# Altium footprint library Con FPC-FFC.PcbLib: 50 footprints (part 1 of 4)
Each footprint in its own frame and in the unit in brackets; x right, y up, seen from the top. Pads: shape width x height; smd on the part's side, far side on the other; paste and mask are expansions set on the pad; w line width, h text height; cw(c..) or ccw(c..) is an arc to the next point about the centre after c.
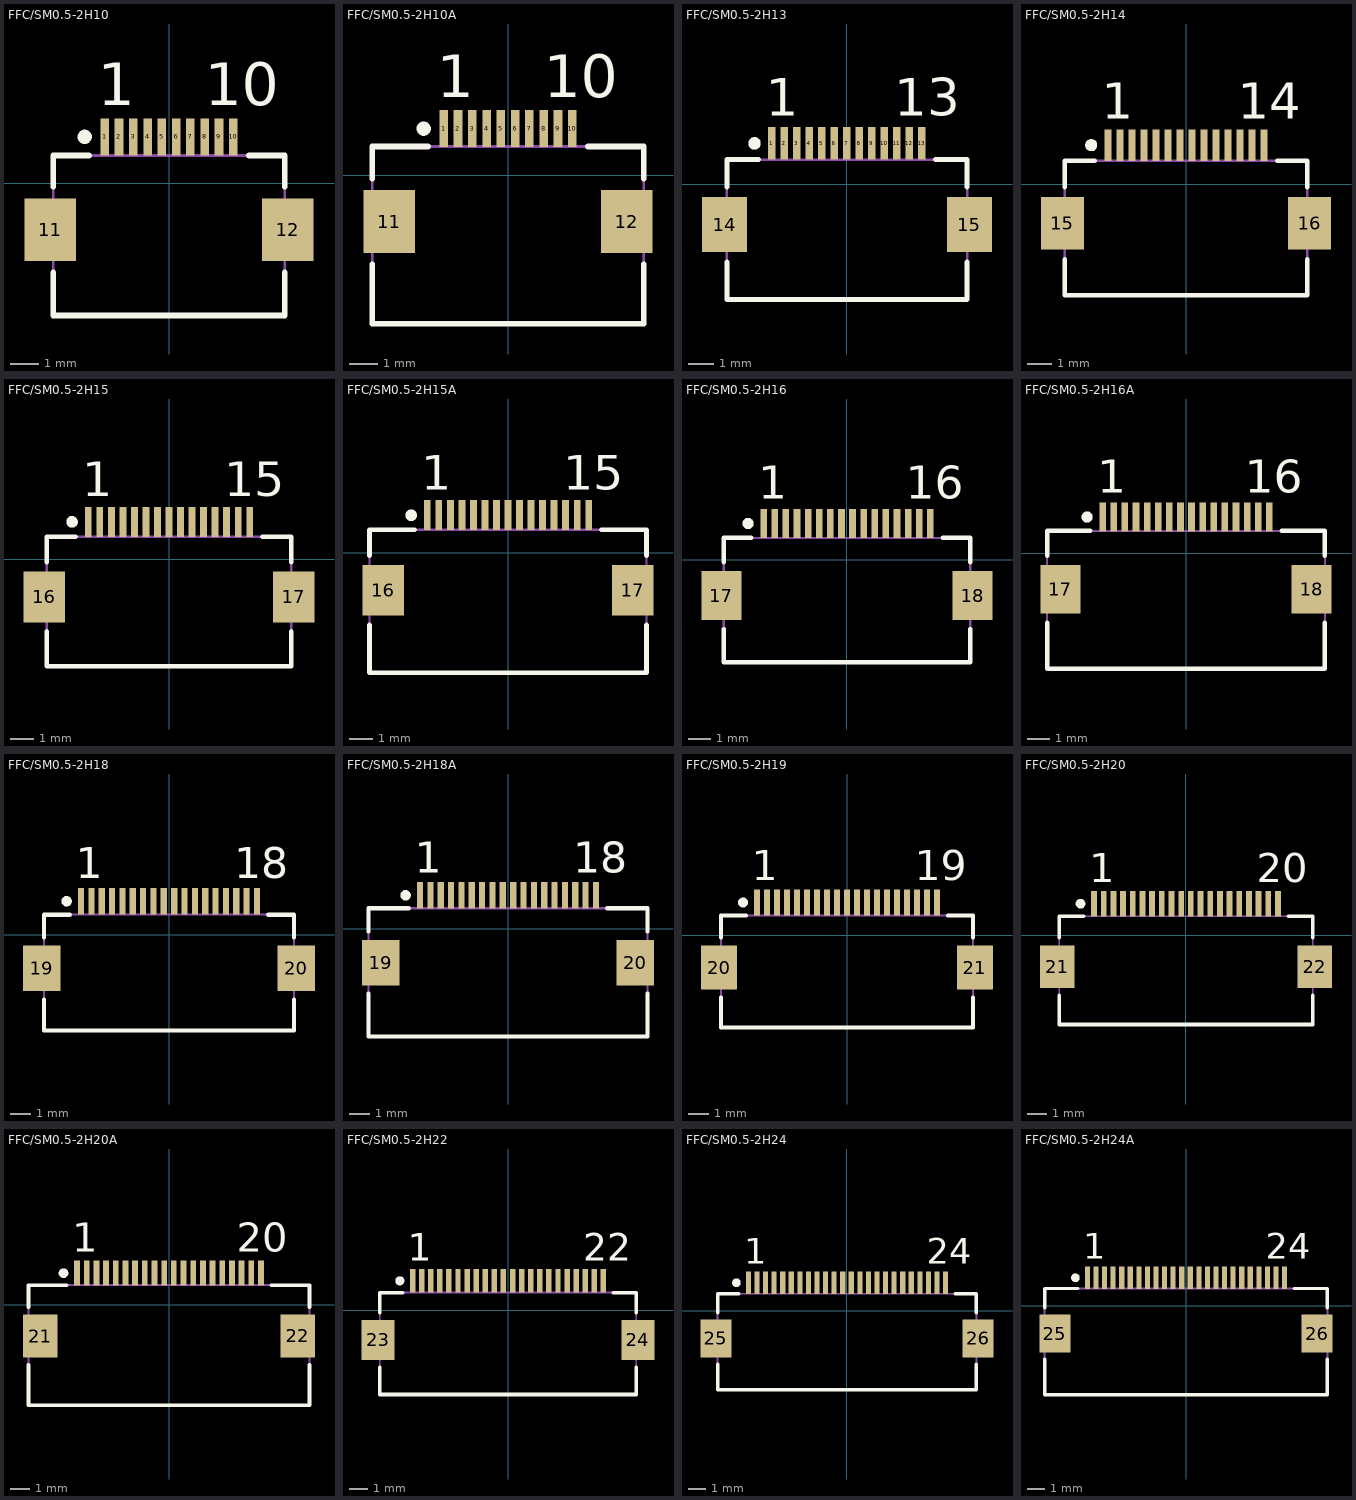
[diagram p0: the footprints below, top view; thin cyan lines are the x and y axes]

## FFC/SM0.5-2H10 [mm] "Connector; FH12 Series; 10 Position; 0.5mm Spaced Bottom Contact"
height 2
pads (12):
  rect 0.3x1.3 smd: 1(-2.25,1.625) 2(-1.75,1.625) 3(-1.25,1.625) 4(-0.75,1.625) 5(-0.25,1.625) 6(0.25,1.625) 7(0.75,1.625) 8(1.25,1.625) 9(1.75,1.625) 10(2.25,1.625)
  rect 1.8x2.2 smd: 11(-4.15,-1.625) 12(4.15,-1.625)
Top Overlay:
  circle w0.25: c-2.95,1.625 r0.125
  lines w0.2: -4.05,-3.125 -4.05,-4.625 4.05,-4.625 4.05,-3.125 ; -4.05,-0.125 -4.05,0.975 -2.8,0.975 ; 2.8,0.975 4.05,0.975 4.05,-0.125
  text "10" at 1.25,2.725 h1.5
  text "1" at -2.5,2.725 h1.5
Mechanical 13:
  lines w0.1: -4.05,-4.625 -4.05,0.975 4.05,0.975 4.05,-4.625 -4.05,-4.625
3D body: height 2, standoff 0, extent -4.05,-4.625 4.05,0.975

## FFC/SM0.5-2H10A [mm] "Connector; FH12 Series; 10 Position; 0.5mm Spaced Top Contact"
height 2
pads (12):
  rect 0.3x1.3 smd: 1(-2.25,1.625) 2(-1.75,1.625) 3(-1.25,1.625) 4(-0.75,1.625) 5(-0.25,1.625) 6(0.25,1.625) 7(0.75,1.625) 8(1.25,1.625) 9(1.75,1.625) 10(2.25,1.625)
  rect 1.8x2.2 smd: 11(-4.15,-1.625) 12(4.15,-1.625)
Top Overlay:
  circle w0.25: c-2.95,1.625 r0.125
  lines w0.2: -4.75,-3.125 -4.75,-5.2 4.75,-5.2 4.75,-3.125 ; -4.75,-0.125 -4.75,1 -2.8,1 ; 2.8,1 4.75,1 4.75,-0.125
  text "1" at -2.5,2.725 h1.5
  text "10" at 1.25,2.725 h1.5
Mechanical 13:
  lines w0.1: -4.75,-5.2 -4.75,1 4.75,1 4.75,-5.2 -4.75,-5.2
3D body: height 2, standoff 0, extent -4.75,-5.2 4.75,1

## FFC/SM0.5-2H13 [mm] "Connector; FH12 Series; 13 Position; 0.5mm Spaced Bottom Contact"
height 2
pads (15):
  rect 0.3x1.3 smd: 1(-3,1.625) 2(-2.5,1.625) 3(-2,1.625) 4(-1.5,1.625) 5(-1,1.625) 6(-0.5,1.625) 7(0,1.625) 8(0.5,1.625) 9(1,1.625) 10(1.5,1.625) 11(2,1.625) 12(2.5,1.625) 13(3,1.625)
  rect 1.8x2.2 smd: 14(-4.9,-1.625) 15(4.9,-1.625)
Top Overlay:
  circle w0.25: c-3.7,1.625 r0.125
  lines w0.2: -4.8,-3.125 -4.8,-4.625 4.8,-4.625 4.8,-3.125 ; -4.8,-0.125 -4.8,0.975 -3.55,0.975 ; 3.55,0.975 4.8,0.975 4.8,-0.125
  text "13" at 1.9,2.725 h1.5
  text "1" at -3.25,2.725 h1.5
Mechanical 13:
  lines w0.1: -4.8,-4.625 4.8,-4.625 4.8,0.975 -4.8,0.975 -4.8,-4.625
3D body: height 2, standoff 0, extent -4.8,-4.625 4.8,0.975

## FFC/SM0.5-2H14 [mm] "Connector; FH12 Series; 14 Position; 0.5mm Spaced Bottom Contact"
height 2
pads (16):
  rect 0.3x1.3 smd: 1(-3.25,1.625) 2(-2.75,1.625) 3(-2.25,1.625) 4(-1.75,1.625) 5(-1.25,1.625) 6(-0.75,1.625) 7(-0.25,1.625) 8(0.25,1.625) 9(0.75,1.625) 10(1.25,1.625) 11(1.75,1.625) 12(2.25,1.625) 13(2.75,1.625) 14(3.25,1.625)
  rect 1.8x2.2 smd: 15(-5.15,-1.625) 16(5.15,-1.625)
Top Overlay:
  circle w0.25: c-3.95,1.625 r0.125
  lines w0.2: -5.05,-3.125 -5.05,-4.625 5.05,-4.625 5.05,-3.125 ; -5.05,-0.125 -5.05,0.975 -3.8,0.975 ; 3.8,0.975 5.05,0.975 5.05,-0.125
  text "14" at 2.15,2.725 h1.5
  text "1" at -3.5,2.725 h1.5
Mechanical 13:
  lines w0.1: -5.05,-4.625 5.05,-4.625 5.05,0.975 -5.05,0.975 -5.05,-4.625
3D body: height 2, standoff 0, extent -5.05,-4.625 5.05,0.975

## FFC/SM0.5-2H15 [mm] "Connector; FH12 Series; 15 Position; 0.5mm Spaced Bottom Contact"
height 2
pads (17):
  rect 0.3x1.3 smd: 1(-3.5,1.625) 2(-3,1.625) 3(-2.5,1.625) 4(-2,1.625) 5(-1.5,1.625) 6(-1,1.625) 7(-0.5,1.625) 8(0,1.625) 9(0.5,1.625) 10(1,1.625) 11(1.5,1.625) 12(2,1.625) 13(2.5,1.625) 14(3,1.625) 15(3.5,1.625)
  rect 1.8x2.2 smd: 16(-5.4,-1.625) 17(5.4,-1.625)
Top Overlay:
  circle w0.25: c-4.2,1.625 r0.125
  lines w0.2: -5.3,-3.125 -5.3,-4.625 5.3,-4.625 5.3,-3.125 ; -5.3,-0.125 -5.3,0.975 -4.05,0.975 ; 4.05,0.975 5.3,0.975 5.3,-0.125
  text "1" at -3.75,2.725 h1.5
  text "15" at 2.4,2.725 h1.5
Mechanical 13:
  lines w0.1: -5.3,-4.625 5.3,-4.625 5.3,0.975 -5.3,0.975 -5.3,-4.625
3D body: height 2, standoff 0, extent -5.3,-4.625 5.3,0.975

## FFC/SM0.5-2H15A [mm] "Connector; FH12 Series; 15 Position; 0.5mm Spaced Top Contact"
height 2
pads (17):
  rect 0.3x1.3 smd: 1(-3.5,1.625) 2(-3,1.625) 3(-2.5,1.625) 4(-2,1.625) 5(-1.5,1.625) 6(-1,1.625) 7(-0.5,1.625) 8(0,1.625) 9(0.5,1.625) 10(1,1.625) 11(1.5,1.625) 12(2,1.625) 13(2.5,1.625) 14(3,1.625) 15(3.5,1.625)
  rect 1.8x2.2 smd: 16(-5.4,-1.625) 17(5.4,-1.625)
Top Overlay:
  circle w0.25: c-4.2,1.625 r0.125
  lines w0.2: -6,-3.125 -6,-5.2 6,-5.2 6,-3.125 ; -6,-0.125 -6,1 -4.05,1 ; 4.05,1 6,1 6,-0.125
  text "15" at 2.4,2.725 h1.5
  text "1" at -3.75,2.725 h1.5
Mechanical 13:
  lines w0.1: -6,-5.2 6,-5.2 6,1 -6,1 -6,-5.2
3D body: height 2, standoff 0, extent -6,-5.2 6,1

## FFC/SM0.5-2H16 [mm] "Connector; FH12 Series; 16 Position; 0.5mm Spaced Bottom Contact"
height 2
pads (18):
  rect 0.3x1.3 smd: 1(-3.75,1.625) 2(-3.25,1.625) 3(-2.75,1.625) 4(-2.25,1.625) 5(-1.75,1.625) 6(-1.25,1.625) 7(-0.75,1.625) 8(-0.25,1.625) 9(0.25,1.625) 10(0.75,1.625) 11(1.25,1.625) 12(1.75,1.625) 13(2.25,1.625) 14(2.75,1.625) 15(3.25,1.625) 16(3.75,1.625)
  rect 1.8x2.2 smd: 17(-5.65,-1.625) 18(5.65,-1.625)
Top Overlay:
  circle w0.25: c-4.45,1.625 r0.125
  lines w0.2: -5.55,-3.125 -5.55,-4.625 5.55,-4.625 5.55,-3.125 ; -5.55,-0.125 -5.55,0.975 -4.3,0.975 ; 4.3,0.975 5.55,0.975 5.55,-0.125
  text "16" at 2.65,2.725 h1.5
  text "1" at -4,2.725 h1.5
Mechanical 13:
  lines w0.1: -5.55,-4.625 5.55,-4.625 5.55,0.975 -5.55,0.975 -5.55,-4.625
3D body: height 2, standoff 0, extent -5.55,-4.625 5.55,0.975

## FFC/SM0.5-2H16A [mm] "Connector; FH12 Series; 16 Position; 0.5mm Spaced Top Contact"
height 2
pads (18):
  rect 0.3x1.3 smd: 1(-3.75,1.625) 2(-3.25,1.625) 3(-2.75,1.625) 4(-2.25,1.625) 5(-1.75,1.625) 6(-1.25,1.625) 7(-0.75,1.625) 8(-0.25,1.625) 9(0.25,1.625) 10(0.75,1.625) 11(1.25,1.625) 12(1.75,1.625) 13(2.25,1.625) 14(2.75,1.625) 15(3.25,1.625) 16(3.75,1.625)
  rect 1.8x2.2 smd: 17(-5.65,-1.625) 18(5.65,-1.625)
Top Overlay:
  circle w0.25: c-4.45,1.625 r0.125
  lines w0.2: -6.25,-3.125 -6.25,-5.2 6.25,-5.2 6.25,-3.125 ; -6.25,-0.125 -6.25,1 -4.3,1 ; 4.3,1 6.25,1 6.25,-0.125
  text "1" at -4,2.725 h1.5
  text "16" at 2.65,2.725 h1.5
Mechanical 13:
  lines w0.1: -6.25,-5.2 6.25,-5.2 6.25,1 -6.25,1 -6.25,-5.2
3D body: height 2, standoff 0, extent -6.25,-5.2 6.25,1

## FFC/SM0.5-2H18 [mm] "Connector; FH12 Series; 18 Position; 0.5mm Spaced Bottom Contact"
height 2
pads (20):
  rect 0.3x1.3 smd: 1(-4.25,1.625) 2(-3.75,1.625) 3(-3.25,1.625) 4(-2.75,1.625) 5(-2.25,1.625) 6(-1.75,1.625) 7(-1.25,1.625) 8(-0.75,1.625) 9(-0.25,1.625) 10(0.25,1.625) 11(0.75,1.625) 12(1.25,1.625) 13(1.75,1.625) 14(2.25,1.625) 15(2.75,1.625) 16(3.25,1.625) 17(3.75,1.625) 18(4.25,1.625)
  rect 1.8x2.2 smd: 19(-6.15,-1.625) 20(6.15,-1.625)
Top Overlay:
  circle w0.25: c-4.95,1.625 r0.125
  lines w0.2: -6.05,-3.125 -6.05,-4.625 6.05,-4.625 6.05,-3.125 ; -6.05,-0.125 -6.05,0.975 -4.8,0.975 ; 4.8,0.975 6.05,0.975 6.05,-0.125
  text "18" at 3.15,2.725 h1.5
  text "1" at -4.5,2.725 h1.5
Mechanical 13:
  lines w0.1: -6.05,-4.625 6.05,-4.625 6.05,0.975 -6.05,0.975 -6.05,-4.625
3D body: height 2, standoff 0, extent -6.05,-4.625 6.05,0.975

## FFC/SM0.5-2H18A [mm] "Connector; FH12 Series; 18 Position; 0.5mm Spaced Top Contact"
height 2
pads (20):
  rect 0.3x1.3 smd: 1(-4.25,1.625) 2(-3.75,1.625) 3(-3.25,1.625) 4(-2.75,1.625) 5(-2.25,1.625) 6(-1.75,1.625) 7(-1.25,1.625) 8(-0.75,1.625) 9(-0.25,1.625) 10(0.25,1.625) 11(0.75,1.625) 12(1.25,1.625) 13(1.75,1.625) 14(2.25,1.625) 15(2.75,1.625) 16(3.25,1.625) 17(3.75,1.625) 18(4.25,1.625)
  rect 1.8x2.2 smd: 19(-6.15,-1.625) 20(6.15,-1.625)
Top Overlay:
  circle w0.25: c-4.95,1.625 r0.125
  lines w0.2: -6.75,-3.125 -6.75,-5.2 6.75,-5.2 6.75,-3.125 ; -6.75,-0.125 -6.75,1 -4.8,1 ; 4.8,1 6.75,1 6.75,-0.125
  text "18" at 3.15,2.725 h1.5
  text "1" at -4.5,2.725 h1.5
Mechanical 13:
  lines w0.1: -6.75,-5.2 6.75,-5.2 6.75,1 -6.75,1 -6.75,-5.2
3D body: height 2, standoff 0, extent -6.75,-5.2 6.75,1

## FFC/SM0.5-2H19 [mm] "Connector; FH12 Series; 19 Position; 0.5mm Spaced Bottom Contact"
height 2
pads (21):
  rect 0.3x1.3 smd: 1(-4.5,1.625) 2(-4,1.625) 3(-3.5,1.625) 4(-3,1.625) 5(-2.5,1.625) 6(-2,1.625) 7(-1.5,1.625) 8(-1,1.625) 9(-0.5,1.625) 10(0,1.625) 11(0.5,1.625) 12(1,1.625) 13(1.5,1.625) 14(2,1.625) 15(2.5,1.625) 16(3,1.625) 17(3.5,1.625) 18(4,1.625) 19(4.5,1.625)
  rect 1.8x2.2 smd: 20(-6.4,-1.625) 21(6.4,-1.625)
Top Overlay:
  circle w0.25: c-5.2,1.625 r0.125
  lines w0.2: -6.3,-3.125 -6.3,-4.625 6.3,-4.625 6.3,-3.125 ; -6.3,-0.125 -6.3,0.975 -5.05,0.975 ; 5.05,0.975 6.3,0.975 6.3,-0.125
  text "1" at -4.75,2.725 h1.5
  text "19" at 3.4,2.725 h1.5
Mechanical 13:
  lines w0.1: -6.3,-4.625 6.3,-4.625 6.3,0.975 -6.3,0.975 -6.3,-4.625
3D body: height 2, standoff 0, extent -6.3,-4.625 6.3,0.975

## FFC/SM0.5-2H20 [mm] "Connector; FH12 Series; 20 Position; 0.5mm Spaced Bottom Contact"
height 2
pads (22):
  rect 0.3x1.3 smd: 1(-4.75,1.625) 2(-4.25,1.625) 3(-3.75,1.625) 4(-3.25,1.625) 5(-2.75,1.625) 6(-2.25,1.625) 7(-1.75,1.625) 8(-1.25,1.625) 9(-0.75,1.625) 10(-0.25,1.625) 11(0.25,1.625) 12(0.75,1.625) 13(1.25,1.625) 14(1.75,1.625) 15(2.25,1.625) 16(2.75,1.625) 17(3.25,1.625) 18(3.75,1.625) 19(4.25,1.625) 20(4.75,1.625)
  rect 1.8x2.2 smd: 21(-6.65,-1.625) 22(6.65,-1.623)
Top Overlay:
  circle w0.25: c-5.45,1.625 r0.125
  lines w0.2: -6.55,-3.123 -6.55,-4.623 6.55,-4.623 6.55,-3.123 ; -6.55,-0.123 -6.55,0.977 -5.3,0.977 ; 5.3,0.977 6.55,0.977 6.55,-0.123
  text "20" at 3.65,2.725 h1.5
  text "1" at -5,2.725 h1.5
Mechanical 13:
  lines w0.1: -6.55,-4.623 6.55,-4.623 6.55,0.977 -6.55,0.977 -6.55,-4.623
3D body: height 2, standoff 0, extent -6.55,-4.623 6.55,0.977

## FFC/SM0.5-2H20A [mm] "Connector; FH12 Series; 20 Position; 0.5mm Spaced Top Contact"
height 2
pads (22):
  rect 0.3x1.3 smd: 1(-4.75,1.625) 2(-4.25,1.625) 3(-3.75,1.625) 4(-3.25,1.625) 5(-2.75,1.625) 6(-2.25,1.625) 7(-1.75,1.625) 8(-1.25,1.625) 9(-0.75,1.625) 10(-0.25,1.625) 11(0.25,1.625) 12(0.75,1.625) 13(1.25,1.625) 14(1.75,1.625) 15(2.25,1.625) 16(2.75,1.625) 17(3.25,1.625) 18(3.75,1.625) 19(4.25,1.625) 20(4.75,1.625)
  rect 1.8x2.2 smd: 21(-6.65,-1.625) 22(6.65,-1.623)
Top Overlay:
  circle w0.25: c-5.45,1.625 r0.125
  lines w0.2: -7.25,-3.123 -7.25,-5.198 7.25,-5.198 7.25,-3.123 ; -7.25,-0.123 -7.25,1.002 -5.3,1.002 ; 5.3,1.002 7.25,1.002 7.25,-0.123
  text "1" at -5,2.725 h1.5
  text "20" at 3.5,2.725 h1.5
Mechanical 13:
  lines w0.1: -7.25,-5.198 7.25,-5.198 7.25,1.002 -7.25,1.002 -7.25,-5.198
3D body: height 2, standoff 0, extent -7.25,-5.198 7.25,1.002

## FFC/SM0.5-2H22 [mm] "Connector; FH12 Series; 22 Position; 0.5mm Spaced Bottom Contact"
height 2
pads (24):
  rect 0.3x1.3 smd: 1(-5.25,1.625) 2(-4.75,1.625) 3(-4.25,1.625) 4(-3.75,1.625) 5(-3.25,1.625) 6(-2.75,1.625) 7(-2.25,1.625) 8(-1.75,1.625) 9(-1.25,1.625) 10(-0.75,1.625) 11(-0.25,1.625) 12(0.25,1.625) 13(0.75,1.625) 14(1.25,1.625) 15(1.75,1.625) 16(2.25,1.625) 17(2.75,1.625) 18(3.25,1.625) 19(3.75,1.625) 20(4.25,1.625) 21(4.75,1.625) 22(5.25,1.625)
  rect 1.8x2.2 smd: 23(-7.15,-1.625) 24(7.15,-1.625)
Top Overlay:
  circle w0.25: c-5.95,1.625 r0.125
  lines w0.2: -7.05,-3.125 -7.05,-4.625 7.05,-4.625 7.05,-3.125 ; -7.05,-0.125 -7.05,0.975 -5.8,0.975 ; 5.8,0.975 7.05,0.975 7.05,-0.125
  text "22" at 4.15,2.725 h1.5
  text "1" at -5.5,2.725 h1.5
Mechanical 13:
  lines w0.1: -7.05,-4.625 7.05,-4.625 7.05,0.975 -7.05,0.975 -7.05,-4.625
3D body: height 2, standoff 0, extent -7.05,-4.625 7.05,0.975

## FFC/SM0.5-2H24 [mm] "Connector; FH12 Series; 24 Position; 0.5mm Spaced Bottom Contact"
height 2
pads (26):
  rect 0.3x1.3 smd: 1(-5.75,1.625) 2(-5.25,1.625) 3(-4.75,1.625) 4(-4.25,1.625) 5(-3.75,1.625) 6(-3.25,1.625) 7(-2.75,1.625) 8(-2.25,1.625) 9(-1.75,1.625) 10(-1.25,1.625) 11(-0.75,1.625) 12(-0.25,1.625) 13(0.25,1.625) 14(0.75,1.625) 15(1.25,1.625) 16(1.75,1.625) 17(2.25,1.625) 18(2.75,1.625) 19(3.25,1.625) 20(3.75,1.625) 21(4.25,1.625) 22(4.75,1.625) 23(5.25,1.625) 24(5.75,1.625)
  rect 1.8x2.2 smd: 25(-7.65,-1.625) 26(7.65,-1.625)
Top Overlay:
  circle w0.25: c-6.45,1.625 r0.125
  lines w0.2: -7.55,-3.125 -7.55,-4.625 7.55,-4.625 7.55,-3.125 ; -7.55,-0.125 -7.55,0.975 -6.3,0.975 ; 6.3,0.975 7.55,0.975 7.55,-0.125
  text "1" at -6,2.725 h1.5
  text "24" at 4.65,2.725 h1.5
Mechanical 13:
  lines w0.1: -7.55,-4.625 7.55,-4.625 7.55,0.975 -7.55,0.975 -7.55,-4.625
3D body: height 2, standoff 0, extent -7.55,-4.625 7.55,0.975

## FFC/SM0.5-2H24A [mm] "Connector; FH12 Series; 24 Position; 0.5mm Spaced Top Contact"
height 2
pads (26):
  rect 0.3x1.3 smd: 1(-5.75,1.625) 2(-5.25,1.625) 3(-4.75,1.625) 4(-4.25,1.625) 5(-3.75,1.625) 6(-3.25,1.625) 7(-2.75,1.625) 8(-2.25,1.625) 9(-1.75,1.625) 10(-1.25,1.625) 11(-0.75,1.625) 12(-0.25,1.625) 13(0.25,1.625) 14(0.75,1.625) 15(1.25,1.625) 16(1.75,1.625) 17(2.25,1.625) 18(2.75,1.625) 19(3.25,1.625) 20(3.75,1.625) 21(4.25,1.625) 22(4.75,1.625) 23(5.25,1.625) 24(5.75,1.625)
  rect 1.8x2.2 smd: 25(-7.65,-1.625) 26(7.65,-1.625)
Top Overlay:
  circle w0.25: c-6.45,1.625 r0.125
  lines w0.2: -8.25,-3.125 -8.25,-5.2 8.25,-5.2 8.25,-3.125 ; -8.25,-0.125 -8.25,1 -6.3,1 ; 6.3,1 8.25,1 8.25,-0.125
  text "1" at -6,2.725 h1.5
  text "24" at 4.65,2.725 h1.5
Mechanical 13:
  lines w0.1: -8.25,-5.2 8.25,-5.2 8.25,1 -8.25,1 -8.25,-5.2
3D body: height 2, standoff 0, extent -8.25,-5.2 8.25,1